# EAGLE library part PN532 (library microbuilder)
PN532 - Near Field Communication (NFC) controller Highly integrated transceiver module for contactless communication at 13.56 MHz (14443A/MIFARE, FeliCa, I4443B)
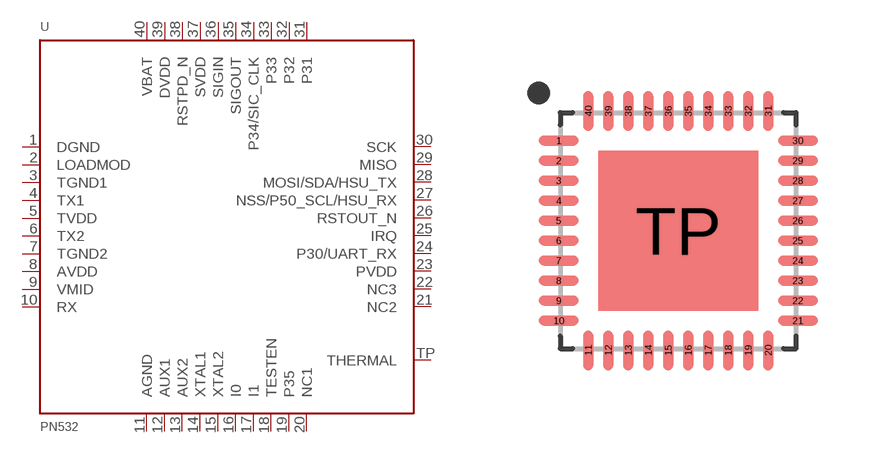
[diagram p52: symbol with the pads of HVQFN40-6X6; footprint HVQFN40-6X6]

Designator prefix U

## PN532  [HVQFN40-6X6]
1  DGND
2  LOADMOD
3  TGND1
4  TX1
5  TVDD
6  TX2
7  TGND2
8  AVDD
9  VMID
10  RX
11  AGND
12  AUX1
13  AUX2
14  XTAL1
15  XTAL2
16  I0
17  I1
18  TESTEN
19  P35
20  NC1
21  NC2
22  NC3
23  PVDD
24  P30/UART_RX
25  IRQ
26  RSTOUT_N
27  NSS/P50_SCL/HSU_RX
28  MOSI/SDA/HSU_TX
29  MISO
30  SCK
31  P31
32  P32
33  P33
34  P34/SIC_CLK
35  SIGOUT
36  SIGIN
37  SVDD
38  RSTPD_N
39  DVDD
40  VBAT
TP  THERMAL

## Footprint HVQFN40-6X6 (pad centres in mm)
HVQFN40 Plastic thermal enhanced very thin quad flat package; 40 terminals; body 6x6x0.85 mm;
smd 1 x 0.25: 1 -2.99,2.25; 2 -2.99,1.75; 3 -2.99,1.25; 4 -2.99,0.75; 5 -2.99,0.25; 6 -2.99,-0.25; 7 -2.99,-0.75; 8 -2.99,-1.25; 9 -2.99,-1.75; 10 -2.99,-2.25; 21 2.99,-2.25; 22 2.99,-1.75; 23 2.99,-1.25; 24 2.99,-0.75; 25 2.99,-0.25; 26 2.99,0.25; 27 2.99,0.75; 28 2.99,1.25; 29 2.99,1.75; 30 2.99,2.25
smd 0.25 x 1: 11 -2.25,-2.99; 12 -1.75,-2.99; 13 -1.25,-2.99; 14 -0.75,-2.99; 15 -0.25,-2.99; 16 0.25,-2.99; 17 0.75,-2.99; 18 1.25,-2.99; 19 1.75,-2.99; 20 2.25,-2.99; 31 2.25,2.99; 32 1.75,2.99; 33 1.25,2.99; 34 0.75,2.99; 35 0.25,2.99; 36 -0.25,2.99; 37 -0.75,2.99; 38 -1.25,2.99; 39 -1.75,2.99; 40 -2.25,2.99
smd 4 x 4: TP 0,0